# Altium footprint library custom_push_button.PcbLib: 1 footprints
Each footprint in its own frame and in the unit in brackets; x right, y up, seen from the top. Pads: shape width x height; smd on the part's side, far side on the other; paste and mask are expansions set on the pad; w line width, h text height; cw(c..) or ccw(c..) is an arc to the next point about the centre after c.
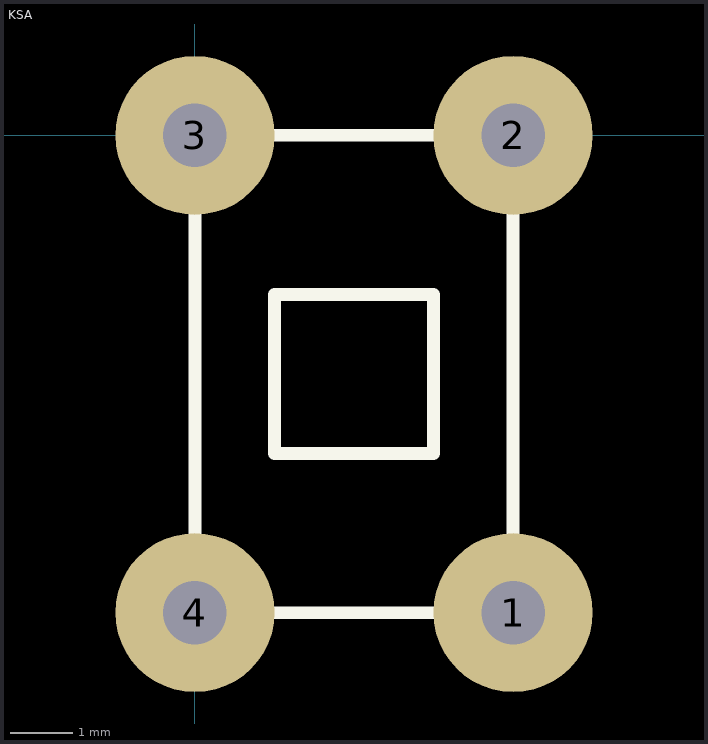
[diagram p0: the footprint, top view; thin cyan lines are the x and y axes]

## KSA [mil]
pads (4):
  round 100 hole 40: 1(200,-300) 2(200,0) 3(0,0) 4(0,-300)
Top Overlay:
  lines w8: 0,-300 200,-300 200,0 0,0 0,-300 ; 50,-200 150,-200 150,-100 50,-100 50,-200